# Altium footprint library QFP-48, 7mm x 7mm, 0.5mm.PcbLib: 1 footprints
Each footprint in its own frame and in the unit in brackets; x right, y up, seen from the top. Pads: shape width x height; smd on the part's side, far side on the other; paste and mask are expansions set on the pad; w line width, h text height; cw(c..) or ccw(c..) is an arc to the next point about the centre after c.
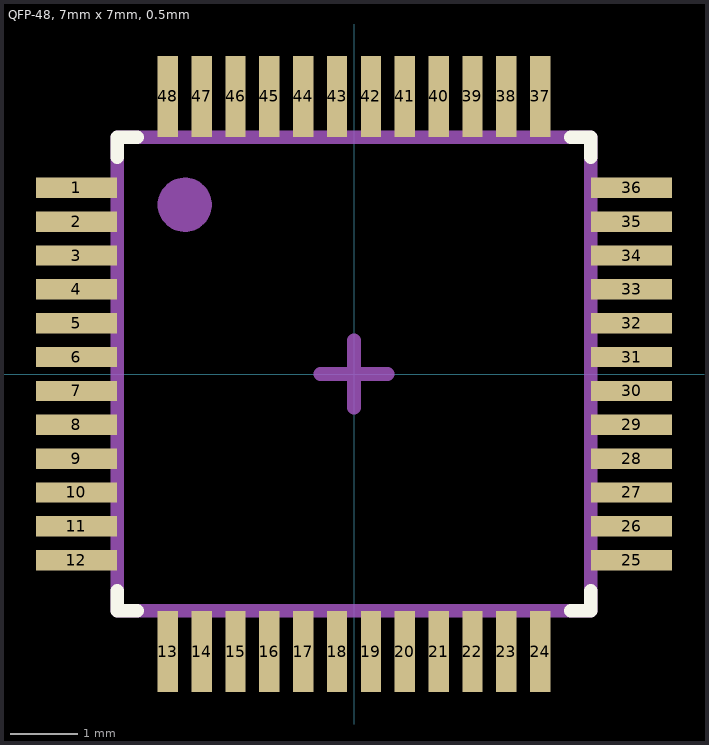
[diagram p0: the footprint, top view; thin cyan lines are the x and y axes]

## QFP-48, 7mm x 7mm, 0.5mm [mm] "QFP-48, 7mm x 7mm, 0.5mm"
height 1.6
pads (48):
  rect 1.2x0.3 smd mask+0.05: 1(-4.1,2.75) 2(-4.1,2.25) 3(-4.1,1.75) 4(-4.1,1.25) 5(-4.1,0.75) 6(-4.1,0.25) 7(-4.1,-0.25) 8(-4.1,-0.75) 9(-4.1,-1.25) 10(-4.1,-1.75) 11(-4.1,-2.25) 12(-4.1,-2.75) 25(4.1,-2.75) 26(4.1,-2.25) 27(4.1,-1.75) 28(4.1,-1.25) 29(4.1,-0.75) 30(4.1,-0.25) 31(4.1,0.25) 32(4.1,0.75) 33(4.1,1.25) 34(4.1,1.75) 35(4.1,2.25) 36(4.1,2.75)
  rect 0.3x1.2 smd mask+0.05: 13(-2.75,-4.1) 14(-2.25,-4.1) 15(-1.75,-4.1) 16(-1.25,-4.1) 17(-0.75,-4.1) 18(-0.25,-4.1) 19(0.25,-4.1) 20(0.75,-4.1) 21(1.25,-4.1) 22(1.75,-4.1) 23(2.25,-4.1) 24(2.75,-4.1) 37(2.75,4.1) 38(2.25,4.1) 39(1.75,4.1) 40(1.25,4.1) 41(0.75,4.1) 42(0.25,4.1) 43(-0.25,4.1) 44(-0.75,4.1) 45(-1.25,4.1) 46(-1.75,4.1) 47(-2.25,4.1) 48(-2.75,4.1)
Top Overlay:
  lines w0.2: -3.5,-3.2 -3.5,-3.5 -3.2,-3.5 ; -3.5,3.2 -3.5,3.5 -3.2,3.5 ; 3.2,-3.5 3.5,-3.5 3.5,-3.2 ; 3.2,3.5 3.5,3.5 3.5,3.2
Top Assembly:
  circle w0.4: c-2.5,2.5 r0.2
  lines w0.2: -3.5,-3.5 -3.5,3.5 3.5,3.5 3.5,-3.5 -3.5,-3.5
Top Designator:
  text ".Designator" at -3,-2.7 h1.6
Top Component Center:
  lines w0.2: -0.5,0 0.5,0 ; 0,-0.5 0,0.5
3D body: height 1.52, standoff 1, extent -2.85,2.35 -2.35,2.85
3D body "QFP-48, 7mm x 7mm, 0.5mm.step": height 1.5, standoff 0, extent -4.5,-4.5 4.5,4.5